# Altium schematic symbol library jlcpcb_2025_04_inductors_extended_1206.schlib: 159 symbols (part 3 of 3)
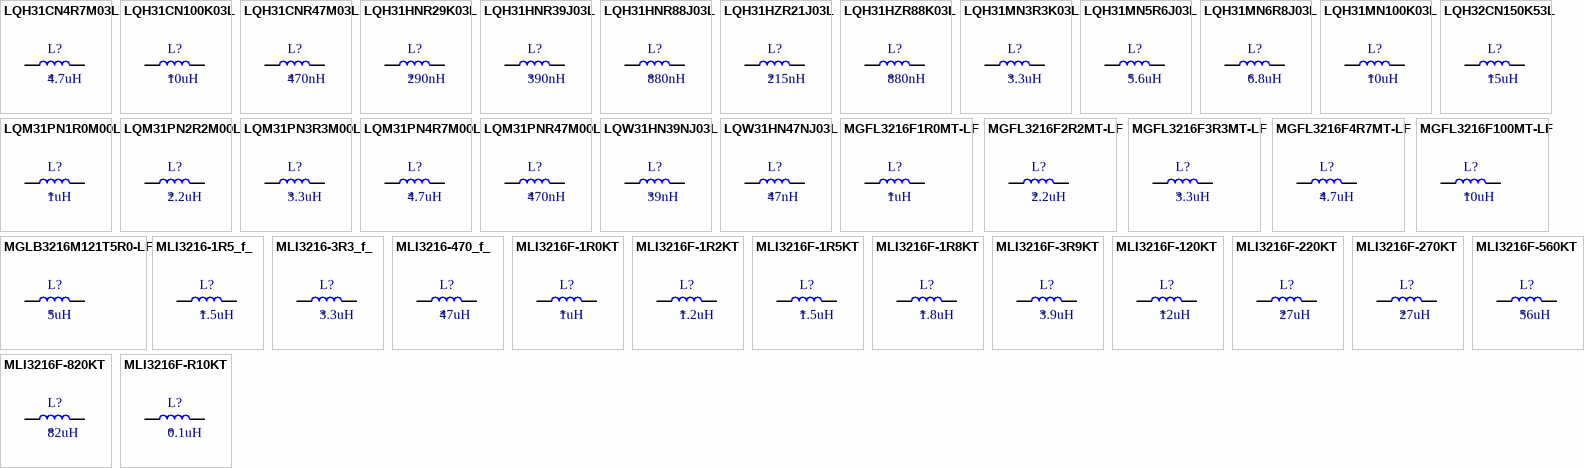
[diagram p5: symbols LQH31CN4R7M03L to MLI3216F-R10KT]

## MLI3216-1R5_f_
designator L?  Inductance: 1.5uH
Inductor, 1.5uH, ±10%, 500mΩ, 50mA, SMD 1206; Manufacturer: Meled; Manufacturer Part Number: MLI3216-1R5(f); Package Size: 1206; JLCPCB Basic Part: No; JLCPCB Part Number: C15581; Supplier 1: LCSC; Category: Inductors; Supplier Part Number 1: C15581; Tolerance: ±10%; Rated Current: 50mA; DC Resistance: 500mΩ; RoHS: Yes; ComponentLink1Description: Datasheet; ComponentLink1URL: https://wmsc.lcsc.com/wmsc/upload/file/pdf/v2/lcsc/1809191731_MetalLions-MLI3216-1R5-f_C15581.pdf; ComponentLink2Description: JLCPCB Part URL; ComponentLink2URL: https://jlcpcb.com/partdetail/C15581; ComponentLink3Description: LCSC Part URL; ComponentLink3URL: https://lcsc.com/product-detail/Inductors-SMD_Meled-Meled-MLI3216-1R5f_C15581.html
footprint IND-1206 (1206 (3216M) Inductor)
pins: 1, 2

## MLI3216-3R3_f_
designator L?  Inductance: 3.3uH
Inductor, 3.3uH, ±10%, 700mΩ, 50mA, SMD 1206; Manufacturer: Meled; Manufacturer Part Number: MLI3216-3R3(f); Package Size: 1206; JLCPCB Basic Part: No; JLCPCB Part Number: C52707; Supplier 1: LCSC; Category: Inductors; Supplier Part Number 1: C52707; Tolerance: ±10%; Rated Current: 50mA; DC Resistance: 700mΩ; RoHS: Yes; ComponentLink1Description: Datasheet; ComponentLink1URL: https://wmsc.lcsc.com/wmsc/upload/file/pdf/v2/lcsc/1809231810_MetalLions-MLI3216-3R3-f_C52707.pdf; ComponentLink2Description: JLCPCB Part URL; ComponentLink2URL: https://jlcpcb.com/partdetail/C52707; ComponentLink3Description: LCSC Part URL; ComponentLink3URL: https://lcsc.com/product-detail/Inductors-SMD_Meled-Meled-MLI3216-3R3f_C52707.html
footprint IND-1206 (1206 (3216M) Inductor)
pins: 1, 2

## MLI3216-470_f_
designator L?  Inductance: 47uH
Inductor, 47uH, ±10%, 3.5Ω, 5mA, SMD 1206; Manufacturer: Meled; Manufacturer Part Number: MLI3216-470(f); Package Size: 1206; JLCPCB Basic Part: No; JLCPCB Part Number: C26910; Supplier 1: LCSC; Category: Inductors; Supplier Part Number 1: C26910; Tolerance: ±10%; Rated Current: 5mA; DC Resistance: 3.5Ω; RoHS: Yes; ComponentLink1Description: Datasheet; ComponentLink1URL: https://wmsc.lcsc.com/wmsc/upload/file/pdf/v2/lcsc/1810301816_MetalLions-MLI3216-470-f_C26910.pdf; ComponentLink2Description: JLCPCB Part URL; ComponentLink2URL: https://jlcpcb.com/partdetail/C26910; ComponentLink3Description: LCSC Part URL; ComponentLink3URL: https://lcsc.com/product-detail/Inductors-SMD_Meled-Meled-MLI3216-470f_C26910.html
footprint IND-1206 (1206 (3216M) Inductor)
pins: 1, 2

## MLI3216F-1R0KT
designator L?  Inductance: 1uH
Inductor, 1uH, ±10%, 0.4Ω, 100mA, SMD 1206; Manufacturer: Meled; Manufacturer Part Number: MLI3216F-1R0KT; Self-Resonant Frequency: 75MHz; Q Factor: 45@10MHz; Package Size: 1206; JLCPCB Basic Part: No; JLCPCB Part Number: C2885918; Supplier 1: LCSC; Category: Inductors; Supplier Part Number 1: C2885918; Tolerance: ±10%; Rated Current: 100mA; DC Resistance: 0.4Ω; RoHS: Yes; ComponentLink1Description: Datasheet; ComponentLink1URL: https://wmsc.lcsc.com/wmsc/upload/file/pdf/v2/lcsc/2306021139_MetalLions-MLI3216F-1R0KT_C2885918.pdf; ComponentLink2Description: JLCPCB Part URL; ComponentLink2URL: https://jlcpcb.com/partdetail/C2885918; ComponentLink3Description: LCSC Part URL; ComponentLink3URL: https://lcsc.com/product-detail/Inductors-SMD_MetalLions-MetalLions-MLI3216F-1R0KT_C2885918.html
footprint IND-1206 (1206 (3216M) Inductor)
pins: 1, 2

## MLI3216F-1R2KT
designator L?  Inductance: 1.2uH
Inductor, 1.2uH, ±10%, 0.5Ω, 100mA, SMD 1206; Manufacturer: Meled; Manufacturer Part Number: MLI3216F-1R2KT; Self-Resonant Frequency: 65MHz; Q Factor: 45@10MHz; Package Size: 1206; JLCPCB Basic Part: No; JLCPCB Part Number: C2885919; Supplier 1: LCSC; Category: Inductors; Supplier Part Number 1: C2885919; Tolerance: ±10%; Rated Current: 100mA; DC Resistance: 0.5Ω; RoHS: Yes; ComponentLink1Description: Datasheet; ComponentLink1URL: https://wmsc.lcsc.com/wmsc/upload/file/pdf/v2/lcsc/2306021139_MetalLions-MLI3216F-1R2KT_C2885919.pdf; ComponentLink2Description: JLCPCB Part URL; ComponentLink2URL: https://jlcpcb.com/partdetail/C2885919; ComponentLink3Description: LCSC Part URL; ComponentLink3URL: https://lcsc.com/product-detail/Inductors-SMD_MetalLions-MetalLions-MLI3216F-1R2KT_C2885919.html
footprint IND-1206 (1206 (3216M) Inductor)
pins: 1, 2

## MLI3216F-1R5KT
designator L?  Inductance: 1.5uH
Inductor, 1.5uH, ±10%, 0.5Ω, 50mA, SMD 1206; Manufacturer: Meled; Manufacturer Part Number: MLI3216F-1R5KT; Self-Resonant Frequency: 60MHz; Q Factor: 45@10MHz; Package Size: 1206; JLCPCB Basic Part: No; JLCPCB Part Number: C2885920; Supplier 1: LCSC; Category: Inductors; Supplier Part Number 1: C2885920; Tolerance: ±10%; Rated Current: 50mA; DC Resistance: 0.5Ω; RoHS: Yes; ComponentLink1Description: Datasheet; ComponentLink1URL: https://wmsc.lcsc.com/wmsc/upload/file/pdf/v2/lcsc/2306021139_MetalLions-MLI3216F-1R5KT_C2885920.pdf; ComponentLink2Description: JLCPCB Part URL; ComponentLink2URL: https://jlcpcb.com/partdetail/C2885920; ComponentLink3Description: LCSC Part URL; ComponentLink3URL: https://lcsc.com/product-detail/Inductors-SMD_MetalLions-MetalLions-MLI3216F-1R5KT_C2885920.html
footprint IND-1206 (1206 (3216M) Inductor)
pins: 1, 2

## MLI3216F-1R8KT
designator L?  Inductance: 1.8uH
Inductor, 1.8uH, ±10%, 0.5Ω, 50mA, SMD 1206; Manufacturer: Meled; Manufacturer Part Number: MLI3216F-1R8KT; Self-Resonant Frequency: 55MHz; Q Factor: 45@10MHz; Package Size: 1206; JLCPCB Basic Part: No; JLCPCB Part Number: C2885921; Supplier 1: LCSC; Category: Inductors; Supplier Part Number 1: C2885921; Tolerance: ±10%; Rated Current: 50mA; DC Resistance: 0.5Ω; RoHS: Yes; ComponentLink1Description: Datasheet; ComponentLink1URL: https://wmsc.lcsc.com/wmsc/upload/file/pdf/v2/lcsc/2306021139_MetalLions-MLI3216F-1R8KT_C2885921.pdf; ComponentLink2Description: JLCPCB Part URL; ComponentLink2URL: https://jlcpcb.com/partdetail/C2885921; ComponentLink3Description: LCSC Part URL; ComponentLink3URL: https://lcsc.com/product-detail/Inductors-SMD_MetalLions-MetalLions-MLI3216F-1R8KT_C2885921.html
footprint IND-1206 (1206 (3216M) Inductor)
pins: 1, 2

## MLI3216F-3R9KT
designator L?  Inductance: 3.9uH
Inductor, 3.9uH, ±10%, 0.8Ω, 50mA, SMD 1206; Manufacturer: Meled; Manufacturer Part Number: MLI3216F-3R9KT; Self-Resonant Frequency: 38MHz; Q Factor: 45@10MHz; Package Size: 1206; JLCPCB Basic Part: No; JLCPCB Part Number: C2885925; Supplier 1: LCSC; Category: Inductors; Supplier Part Number 1: C2885925; Tolerance: ±10%; Rated Current: 50mA; DC Resistance: 0.8Ω; RoHS: Yes; ComponentLink1Description: Datasheet; ComponentLink1URL: https://wmsc.lcsc.com/wmsc/upload/file/pdf/v2/lcsc/2306021139_MetalLions-MLI3216F-3R9KT_C2885925.pdf; ComponentLink2Description: JLCPCB Part URL; ComponentLink2URL: https://jlcpcb.com/partdetail/C2885925; ComponentLink3Description: LCSC Part URL; ComponentLink3URL: https://lcsc.com/product-detail/Inductors-SMD_MetalLions-MetalLions-MLI3216F-3R9KT_C2885925.html
footprint IND-1206 (1206 (3216M) Inductor)
pins: 1, 2

## MLI3216F-120KT
designator L?  Inductance: 12uH
Inductor, 12uH, ±10%, 1.05Ω, 15mA, SMD 1206; Manufacturer: Meled; Manufacturer Part Number: MLI3216F-120KT; Self-Resonant Frequency: 22MHz; Q Factor: 50@2MHz; Package Size: 1206; JLCPCB Basic Part: No; JLCPCB Part Number: C2885931; Supplier 1: LCSC; Category: Inductors; Supplier Part Number 1: C2885931; Tolerance: ±10%; Rated Current: 15mA; DC Resistance: 1.05Ω; RoHS: Yes; ComponentLink1Description: Datasheet; ComponentLink1URL: https://wmsc.lcsc.com/wmsc/upload/file/pdf/v2/lcsc/2306021139_MetalLions-MLI3216F-120KT_C2885931.pdf; ComponentLink2Description: JLCPCB Part URL; ComponentLink2URL: https://jlcpcb.com/partdetail/C2885931; ComponentLink3Description: LCSC Part URL; ComponentLink3URL: https://lcsc.com/product-detail/Inductors-SMD_MetalLions-MetalLions-MLI3216F-120KT_C2885931.html
footprint IND-1206 (1206 (3216M) Inductor)
pins: 1, 2

## MLI3216F-220KT
designator L?  Inductance: 27uH
Inductor, 27uH, ±10%, 0.9Ω, 5mA, SMD 1206; Manufacturer: Meled; Manufacturer Part Number: MLI3216F-220KT; Self-Resonant Frequency: 16MHz; Q Factor: 35@1MHz; Package Size: 1206; JLCPCB Basic Part: No; JLCPCB Part Number: C2885934; Supplier 1: LCSC; Category: Inductors; Supplier Part Number 1: C2885934; Tolerance: ±10%; Rated Current: 5mA; DC Resistance: 0.9Ω; RoHS: Yes; ComponentLink1Description: Datasheet; ComponentLink1URL: https://wmsc.lcsc.com/wmsc/upload/file/pdf/v2/lcsc/2306021139_MetalLions-MLI3216F-220KT_C2885934.pdf; ComponentLink2Description: JLCPCB Part URL; ComponentLink2URL: https://jlcpcb.com/partdetail/C2885934; ComponentLink3Description: LCSC Part URL; ComponentLink3URL: https://lcsc.com/product-detail/Inductors-SMD_MetalLions-MetalLions-MLI3216F-220KT_C2885934.html
footprint IND-1206 (1206 (3216M) Inductor)
pins: 1, 2

## MLI3216F-270KT
designator L?  Inductance: 27uH
Inductor, 27uH, ±10%, 0.9Ω, 5mA, SMD 1206; Manufacturer: Meled; Manufacturer Part Number: MLI3216F-270KT; Self-Resonant Frequency: 14MHz; Q Factor: 35@1MHz; Package Size: 1206; JLCPCB Basic Part: No; JLCPCB Part Number: C2885935; Supplier 1: LCSC; Category: Inductors; Supplier Part Number 1: C2885935; Tolerance: ±10%; Rated Current: 5mA; DC Resistance: 0.9Ω; RoHS: Yes; ComponentLink1Description: Datasheet; ComponentLink1URL: https://wmsc.lcsc.com/wmsc/upload/file/pdf/v2/lcsc/2306021139_MetalLions-MLI3216F-270KT_C2885935.pdf; ComponentLink2Description: JLCPCB Part URL; ComponentLink2URL: https://jlcpcb.com/partdetail/C2885935; ComponentLink3Description: LCSC Part URL; ComponentLink3URL: https://lcsc.com/product-detail/Inductors-SMD_MetalLions-MetalLions-MLI3216F-270KT_C2885935.html
footprint IND-1206 (1206 (3216M) Inductor)
pins: 1, 2

## MLI3216F-560KT
designator L?  Inductance: 56uH
Inductor, 56uH, ±10%, 3.8Ω, 4mA, SMD 1206; Manufacturer: Meled; Manufacturer Part Number: MLI3216F-560KT; Self-Resonant Frequency: 9.5MHz; Q Factor: 10@2MHz; Package Size: 1206; JLCPCB Basic Part: No; JLCPCB Part Number: C2885939; Supplier 1: LCSC; Category: Inductors; Supplier Part Number 1: C2885939; Tolerance: ±10%; Rated Current: 4mA; DC Resistance: 3.8Ω; RoHS: Yes; ComponentLink1Description: Datasheet; ComponentLink1URL: https://wmsc.lcsc.com/wmsc/upload/file/pdf/v2/lcsc/2306021139_MetalLions-MLI3216F-560KT_C2885939.pdf; ComponentLink2Description: JLCPCB Part URL; ComponentLink2URL: https://jlcpcb.com/partdetail/C2885939; ComponentLink3Description: LCSC Part URL; ComponentLink3URL: https://lcsc.com/product-detail/Inductors-SMD_MetalLions-MetalLions-MLI3216F-560KT_C2885939.html
footprint IND-1206 (1206 (3216M) Inductor)
pins: 1, 2

## MLI3216F-820KT
designator L?  Inductance: 82uH
Inductor, 82uH, ±10%, 3.4Ω, 4mA, SMD 1206; Manufacturer: Meled; Manufacturer Part Number: MLI3216F-820KT; Self-Resonant Frequency: 9MHz; Q Factor: 10@1MHz; Package Size: 1206; JLCPCB Basic Part: No; JLCPCB Part Number: C2885941; Supplier 1: LCSC; Category: Inductors; Supplier Part Number 1: C2885941; Tolerance: ±10%; Rated Current: 4mA; DC Resistance: 3.4Ω; RoHS: Yes; ComponentLink1Description: Datasheet; ComponentLink1URL: https://wmsc.lcsc.com/wmsc/upload/file/pdf/v2/lcsc/2306021139_MetalLions-MLI3216F-820KT_C2885941.pdf; ComponentLink2Description: JLCPCB Part URL; ComponentLink2URL: https://jlcpcb.com/partdetail/C2885941; ComponentLink3Description: LCSC Part URL; ComponentLink3URL: https://lcsc.com/product-detail/Inductors-SMD_MetalLions-MetalLions-MLI3216F-820KT_C2885941.html
footprint IND-1206 (1206 (3216M) Inductor)
pins: 1, 2

## MLI3216F-R10KT
designator L?  Inductance: 0.1uH
Inductor, 0.1uH, ±10%, 0.25Ω, 250mA, SMD 1206; Manufacturer: Meled; Manufacturer Part Number: MLI3216F-R10KT; Self-Resonant Frequency: 235MHz; Q Factor: 20@25MHz; Package Size: 1206; JLCPCB Basic Part: No; JLCPCB Part Number: C2885907; Supplier 1: LCSC; Category: Inductors; Supplier Part Number 1: C2885907; Tolerance: ±10%; Rated Current: 250mA; DC Resistance: 0.25Ω; RoHS: Yes; ComponentLink1Description: Datasheet; ComponentLink1URL: https://wmsc.lcsc.com/wmsc/upload/file/pdf/v2/lcsc/2306021138_MetalLions-MLI3216F-R10KT_C2885907.pdf; ComponentLink2Description: JLCPCB Part URL; ComponentLink2URL: https://jlcpcb.com/partdetail/C2885907; ComponentLink3Description: LCSC Part URL; ComponentLink3URL: https://lcsc.com/product-detail/Inductors-SMD_MetalLions-MetalLions-MLI3216F-R10KT_C2885907.html
footprint IND-1206 (1206 (3216M) Inductor)
pins: 1, 2

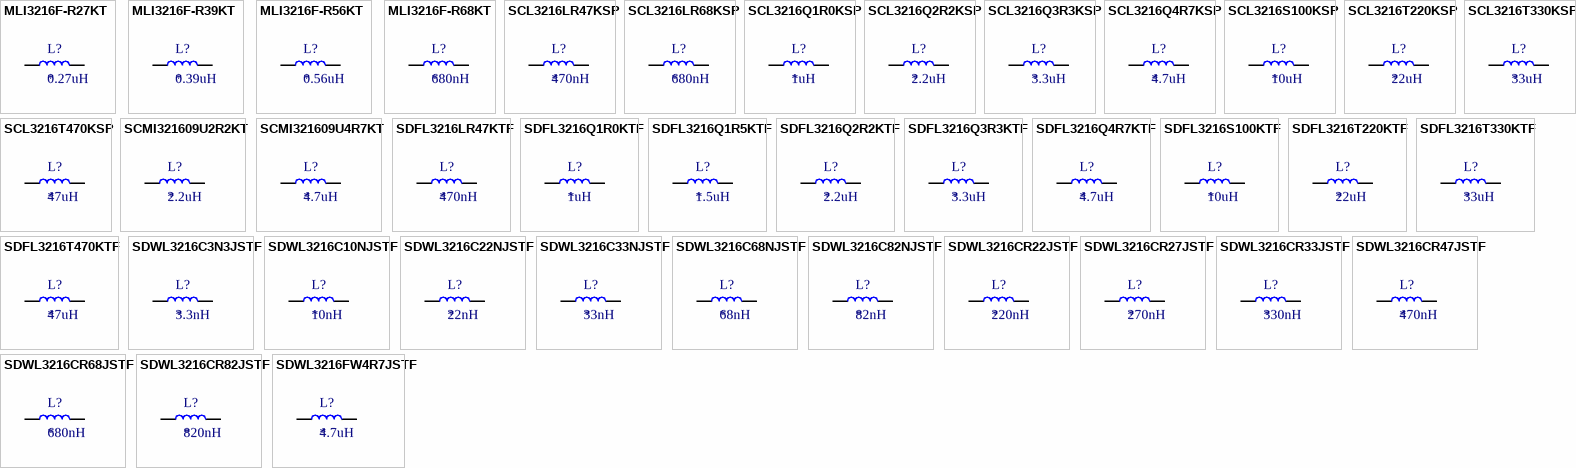
[diagram p3: symbols MLI3216F-R27KT to SDWL3216FW4R7JSTF]

## MLI3216F-R27KT
designator L?  Inductance: 0.27uH
Inductor, 0.27uH, ±10%, 0.5Ω, 250mA, SMD 1206; Manufacturer: Meled; Manufacturer Part Number: MLI3216F-R27KT; Self-Resonant Frequency: 150MHz; Q Factor: 20@25MHz; Package Size: 1206; JLCPCB Basic Part: No; JLCPCB Part Number: C2885911; Supplier 1: LCSC; Category: Inductors; Supplier Part Number 1: C2885911; Tolerance: ±10%; Rated Current: 250mA; DC Resistance: 0.5Ω; RoHS: Yes; ComponentLink1Description: Datasheet; ComponentLink1URL: https://wmsc.lcsc.com/wmsc/upload/file/pdf/v2/lcsc/2306021138_MetalLions-MLI3216F-R27KT_C2885911.pdf; ComponentLink2Description: JLCPCB Part URL; ComponentLink2URL: https://jlcpcb.com/partdetail/C2885911; ComponentLink3Description: LCSC Part URL; ComponentLink3URL: https://lcsc.com/product-detail/Inductors-SMD_MetalLions-MetalLions-MLI3216F-R27KT_C2885911.html
footprint IND-1206 (1206 (3216M) Inductor)
pins: 1, 2

## MLI3216F-R39KT
designator L?  Inductance: 0.39uH
Inductor, 0.39uH, ±10%, 0.5Ω, 200mA, SMD 1206; Manufacturer: Meled; Manufacturer Part Number: MLI3216F-R39KT; Self-Resonant Frequency: 135MHz; Q Factor: 25@25MHz; Package Size: 1206; JLCPCB Basic Part: No; JLCPCB Part Number: C2885913; Supplier 1: LCSC; Category: Inductors; Supplier Part Number 1: C2885913; Tolerance: ±10%; Rated Current: 200mA; DC Resistance: 0.5Ω; RoHS: Yes; ComponentLink1Description: Datasheet; ComponentLink1URL: https://wmsc.lcsc.com/wmsc/upload/file/pdf/v2/lcsc/2306021138_MetalLions-MLI3216F-R39KT_C2885913.pdf; ComponentLink2Description: JLCPCB Part URL; ComponentLink2URL: https://jlcpcb.com/partdetail/C2885913; ComponentLink3Description: LCSC Part URL; ComponentLink3URL: https://lcsc.com/product-detail/Inductors-SMD_MetalLions-MetalLions-MLI3216F-R39KT_C2885913.html
footprint IND-1206 (1206 (3216M) Inductor)
pins: 1, 2

## MLI3216F-R56KT
designator L?  Inductance: 0.56uH
Inductor, 0.56uH, ±10%, 0.7Ω, 150mA, SMD 1206; Manufacturer: Meled; Manufacturer Part Number: MLI3216F-R56KT; Self-Resonant Frequency: 115MHz; Q Factor: 25@25MHz; Package Size: 1206; JLCPCB Basic Part: No; JLCPCB Part Number: C2885915; Supplier 1: LCSC; Category: Inductors; Supplier Part Number 1: C2885915; Tolerance: ±10%; Rated Current: 150mA; DC Resistance: 0.7Ω; RoHS: Yes; ComponentLink1Description: Datasheet; ComponentLink1URL: https://wmsc.lcsc.com/wmsc/upload/file/pdf/v2/lcsc/2306021138_MetalLions-MLI3216F-R56KT_C2885915.pdf; ComponentLink2Description: JLCPCB Part URL; ComponentLink2URL: https://jlcpcb.com/partdetail/C2885915; ComponentLink3Description: LCSC Part URL; ComponentLink3URL: https://lcsc.com/product-detail/Inductors-SMD_MetalLions-MetalLions-MLI3216F-R56KT_C2885915.html
footprint IND-1206 (1206 (3216M) Inductor)
pins: 1, 2

## MLI3216F-R68KT
designator L?  Inductance: 680nH
Inductor, 680nH, ±10%, 800mΩ, 150mA, SMD 1206; Manufacturer: Meled; Manufacturer Part Number: MLI3216F-R68KT; Self-Resonant Frequency: 105MHz; Q Factor: 25@25MHz; Package Size: 1206; JLCPCB Basic Part: No; JLCPCB Part Number: C2885916; Supplier 1: LCSC; Category: Inductors; Supplier Part Number 1: C2885916; Tolerance: ±10%; Rated Current: 150mA; DC Resistance: 800mΩ; RoHS: Yes; ComponentLink1Description: Datasheet; ComponentLink1URL: https://wmsc.lcsc.com/wmsc/upload/file/pdf/v2/lcsc/2306021139_MetalLions-MLI3216F-R68KT_C2885916.pdf; ComponentLink2Description: JLCPCB Part URL; ComponentLink2URL: https://jlcpcb.com/partdetail/C2885916; ComponentLink3Description: LCSC Part URL; ComponentLink3URL: https://lcsc.com/product-detail/Inductors-SMD_MetalLions-MetalLions-MLI3216F-R68KT_C2885916.html
footprint IND-1206 (1206 (3216M) Inductor)
pins: 1, 2

## SCL3216LR47KSP
designator L?  Inductance: 470nH
Inductor, 470nH, ±10%, 600mΩ, 200mA, SMD 1206; Manufacturer: Sunltech Tech; Manufacturer Part Number: SCL3216LR47KSP; Package Size: 1206; JLCPCB Basic Part: No; JLCPCB Part Number: C412012; Supplier 1: LCSC; Category: Inductors; Supplier Part Number 1: C412012; Tolerance: ±10%; Rated Current: 200mA; DC Resistance: 600mΩ; RoHS: Yes; ComponentLink1Description: Datasheet; ComponentLink1URL: https://wmsc.lcsc.com/wmsc/upload/file/pdf/v2/lcsc/2304140030_Sunltech-Tech-SCL3216LR47KSP_C412012.pdf; ComponentLink2Description: JLCPCB Part URL; ComponentLink2URL: https://jlcpcb.com/partdetail/C412012; ComponentLink3Description: LCSC Part URL; ComponentLink3URL: https://lcsc.com/product-detail/Inductors-SMD_Sunltech-Tech-Sunltech-Tech-SCL3216LR47KSP_C412012.html
footprint IND-1206 (1206 (3216M) Inductor)
pins: 1, 2

## SCL3216LR68KSP
designator L?  Inductance: 680nH
Inductor, 680nH, ±10%, 800mΩ, 150mA, SMD 1206; Manufacturer: Sunltech Tech; Manufacturer Part Number: SCL3216LR68KSP; Package Size: 1206; JLCPCB Basic Part: No; JLCPCB Part Number: C412013; Supplier 1: LCSC; Category: Inductors; Supplier Part Number 1: C412013; Tolerance: ±10%; Rated Current: 150mA; DC Resistance: 800mΩ; RoHS: Yes; ComponentLink1Description: Datasheet; ComponentLink1URL: https://wmsc.lcsc.com/wmsc/upload/file/pdf/v2/lcsc/2304140030_Sunltech-Tech-SCL3216LR68KSP_C412013.pdf; ComponentLink2Description: JLCPCB Part URL; ComponentLink2URL: https://jlcpcb.com/partdetail/C412013; ComponentLink3Description: LCSC Part URL; ComponentLink3URL: https://lcsc.com/product-detail/Inductors-SMD_Sunltech-Tech-Sunltech-Tech-SCL3216LR68KSP_C412013.html
footprint IND-1206 (1206 (3216M) Inductor)
pins: 1, 2

## SCL3216Q1R0KSP
designator L?  Inductance: 1uH
Inductor, 1uH, ±10%, 400mΩ, 100mA, SMD 1206; Manufacturer: Sunltech Tech; Manufacturer Part Number: SCL3216Q1R0KSP; Package Size: 1206; JLCPCB Basic Part: No; JLCPCB Part Number: C412014; Supplier 1: LCSC; Category: Inductors; Supplier Part Number 1: C412014; Tolerance: ±10%; Rated Current: 100mA; DC Resistance: 400mΩ; RoHS: Yes; ComponentLink1Description: Datasheet; ComponentLink1URL: https://wmsc.lcsc.com/wmsc/upload/file/pdf/v2/lcsc/2304140030_Sunltech-Tech-SCL3216Q1R0KSP_C412014.pdf; ComponentLink2Description: JLCPCB Part URL; ComponentLink2URL: https://jlcpcb.com/partdetail/C412014; ComponentLink3Description: LCSC Part URL; ComponentLink3URL: https://lcsc.com/product-detail/Inductors-SMD_Sunltech-Tech-Sunltech-Tech-SCL3216Q1R0KSP_C412014.html
footprint IND-1206 (1206 (3216M) Inductor)
pins: 1, 2

## SCL3216Q2R2KSP
designator L?  Inductance: 2.2uH
Inductor, 2.2uH, ±10%, 600mΩ, 50mA, SMD 1206; Manufacturer: Sunltech Tech; Manufacturer Part Number: SCL3216Q2R2KSP; Package Size: 1206; JLCPCB Basic Part: No; JLCPCB Part Number: C412015; Supplier 1: LCSC; Category: Inductors; Supplier Part Number 1: C412015; Tolerance: ±10%; Rated Current: 50mA; DC Resistance: 600mΩ; RoHS: Yes; ComponentLink1Description: Datasheet; ComponentLink1URL: https://wmsc.lcsc.com/wmsc/upload/file/pdf/v2/lcsc/2304140030_Sunltech-Tech-SCL3216Q2R2KSP_C412015.pdf; ComponentLink2Description: JLCPCB Part URL; ComponentLink2URL: https://jlcpcb.com/partdetail/C412015; ComponentLink3Description: LCSC Part URL; ComponentLink3URL: https://lcsc.com/product-detail/Inductors-SMD_Sunltech-Tech-Sunltech-Tech-SCL3216Q2R2KSP_C412015.html
footprint IND-1206 (1206 (3216M) Inductor)
pins: 1, 2

## SCL3216Q3R3KSP
designator L?  Inductance: 3.3uH
Inductor, 3.3uH, ±10%, 700mΩ, 50mA, SMD 1206; Manufacturer: Sunltech Tech; Manufacturer Part Number: SCL3216Q3R3KSP; Package Size: 1206; JLCPCB Basic Part: No; JLCPCB Part Number: C412016; Supplier 1: LCSC; Category: Inductors; Supplier Part Number 1: C412016; Tolerance: ±10%; Rated Current: 50mA; DC Resistance: 700mΩ; RoHS: Yes; ComponentLink1Description: Datasheet; ComponentLink1URL: https://wmsc.lcsc.com/wmsc/upload/file/pdf/v2/lcsc/2304140030_Sunltech-Tech-SCL3216Q3R3KSP_C412016.pdf; ComponentLink2Description: JLCPCB Part URL; ComponentLink2URL: https://jlcpcb.com/partdetail/C412016; ComponentLink3Description: LCSC Part URL; ComponentLink3URL: https://lcsc.com/product-detail/Inductors-SMD_Sunltech-Tech-Sunltech-Tech-SCL3216Q3R3KSP_C412016.html
footprint IND-1206 (1206 (3216M) Inductor)
pins: 1, 2

## SCL3216Q4R7KSP
designator L?  Inductance: 4.7uH
Inductor, 4.7uH, ±10%, 900mΩ, 50mA, SMD 1206; Manufacturer: Sunltech Tech; Manufacturer Part Number: SCL3216Q4R7KSP; Package Size: 1206; JLCPCB Basic Part: No; JLCPCB Part Number: C412017; Supplier 1: LCSC; Category: Inductors; Supplier Part Number 1: C412017; Tolerance: ±10%; Rated Current: 50mA; DC Resistance: 900mΩ; RoHS: Yes; ComponentLink1Description: Datasheet; ComponentLink1URL: https://wmsc.lcsc.com/wmsc/upload/file/pdf/v2/lcsc/2304140030_Sunltech-Tech-SCL3216Q4R7KSP_C412017.pdf; ComponentLink2Description: JLCPCB Part URL; ComponentLink2URL: https://jlcpcb.com/partdetail/C412017; ComponentLink3Description: LCSC Part URL; ComponentLink3URL: https://lcsc.com/product-detail/Inductors-SMD_Sunltech-Tech-Sunltech-Tech-SCL3216Q4R7KSP_C412017.html
footprint IND-1206 (1206 (3216M) Inductor)
pins: 1, 2

## SCL3216S100KSP
designator L?  Inductance: 10uH
Inductor, 10uH, ±10%, 1Ω, 25mA, SMD 1206; Manufacturer: Sunltech Tech; Manufacturer Part Number: SCL3216S100KSP; Package Size: 1206; JLCPCB Basic Part: No; JLCPCB Part Number: C412018; Supplier 1: LCSC; Category: Inductors; Supplier Part Number 1: C412018; Tolerance: ±10%; Rated Current: 25mA; DC Resistance: 1Ω; RoHS: Yes; ComponentLink1Description: Datasheet; ComponentLink1URL: https://wmsc.lcsc.com/wmsc/upload/file/pdf/v2/lcsc/2304140030_Sunltech-Tech-SCL3216S100KSP_C412018.pdf; ComponentLink2Description: JLCPCB Part URL; ComponentLink2URL: https://jlcpcb.com/partdetail/C412018; ComponentLink3Description: LCSC Part URL; ComponentLink3URL: https://lcsc.com/product-detail/Inductors-SMD_Sunltech-Tech-Sunltech-Tech-SCL3216S100KSP_C412018.html
footprint IND-1206 (1206 (3216M) Inductor)
pins: 1, 2

## SCL3216T220KSP
designator L?  Inductance: 22uH
Inductor, 22uH, ±10%, 900mΩ, 5mA, SMD 1206; Manufacturer: Sunltech Tech; Manufacturer Part Number: SCL3216T220KSP; Package Size: 1206; JLCPCB Basic Part: No; JLCPCB Part Number: C412019; Supplier 1: LCSC; Category: Inductors; Supplier Part Number 1: C412019; Tolerance: ±10%; Rated Current: 5mA; DC Resistance: 900mΩ; RoHS: Yes; ComponentLink1Description: Datasheet; ComponentLink1URL: https://wmsc.lcsc.com/wmsc/upload/file/pdf/v2/lcsc/2304140030_Sunltech-Tech-SCL3216T220KSP_C412019.pdf; ComponentLink2Description: JLCPCB Part URL; ComponentLink2URL: https://jlcpcb.com/partdetail/C412019; ComponentLink3Description: LCSC Part URL; ComponentLink3URL: https://lcsc.com/product-detail/Inductors-SMD_Sunltech-Tech-Sunltech-Tech-SCL3216T220KSP_C412019.html
footprint IND-1206 (1206 (3216M) Inductor)
pins: 1, 2

## SCL3216T330KSP
designator L?  Inductance: 33uH
Inductor, 33uH, ±10%, 1.05Ω, 5mA, SMD 1206; Manufacturer: Sunltech Tech; Manufacturer Part Number: SCL3216T330KSP; Package Size: 1206; JLCPCB Basic Part: No; JLCPCB Part Number: C412020; Supplier 1: LCSC; Category: Inductors; Supplier Part Number 1: C412020; Tolerance: ±10%; Rated Current: 5mA; DC Resistance: 1.05Ω; RoHS: Yes; ComponentLink1Description: Datasheet; ComponentLink1URL: https://wmsc.lcsc.com/wmsc/upload/file/pdf/v2/lcsc/2304140030_Sunltech-Tech-SCL3216T330KSP_C412020.pdf; ComponentLink2Description: JLCPCB Part URL; ComponentLink2URL: https://jlcpcb.com/partdetail/C412020; ComponentLink3Description: LCSC Part URL; ComponentLink3URL: https://lcsc.com/product-detail/Inductors-SMD_Sunltech-Tech-Sunltech-Tech-SCL3216T330KSP_C412020.html
footprint IND-1206 (1206 (3216M) Inductor)
pins: 1, 2

## SCL3216T470KSP
designator L?  Inductance: 47uH
Inductor, 47uH, ±10%, 3.4Ω, 5mA, SMD 1206; Manufacturer: Sunltech Tech; Manufacturer Part Number: SCL3216T470KSP; Package Size: 1206; JLCPCB Basic Part: No; JLCPCB Part Number: C412021; Supplier 1: LCSC; Category: Inductors; Supplier Part Number 1: C412021; Tolerance: ±10%; Rated Current: 5mA; DC Resistance: 3.4Ω; RoHS: Yes; ComponentLink1Description: Datasheet; ComponentLink1URL: https://wmsc.lcsc.com/wmsc/upload/file/pdf/v2/lcsc/2007311604_Sunltech-Tech-SCL3216T470KSP_C412021.pdf; ComponentLink2Description: JLCPCB Part URL; ComponentLink2URL: https://jlcpcb.com/partdetail/C412021; ComponentLink3Description: LCSC Part URL; ComponentLink3URL: https://lcsc.com/product-detail/Inductors-SMD_Sunltech-Tech-Sunltech-Tech-SCL3216T470KSP_C412021.html
footprint IND-1206 (1206 (3216M) Inductor)
pins: 1, 2

## SCMI321609U2R2KT
designator L?  Inductance: 2.2uH
Inductor, 2.2uH, ±10%, 500mΩ, 50mA, SMD 1206; Manufacturer: Yanchuang; Manufacturer Part Number: SCMI321609U2R2KT; Package Size: 1206; JLCPCB Basic Part: No; JLCPCB Part Number: C479919; Supplier 1: LCSC; Category: Inductors; Supplier Part Number 1: C479919; Tolerance: ±10%; Rated Current: 50mA; DC Resistance: 500mΩ; RoHS: Yes; ComponentLink1Description: Datasheet; ComponentLink1URL: https://wmsc.lcsc.com/wmsc/upload/file/pdf/v2/lcsc/2007222003_Yanchuang-SCMI321609U2R2KT_C479919.pdf; ComponentLink2Description: JLCPCB Part URL; ComponentLink2URL: https://jlcpcb.com/partdetail/C479919; ComponentLink3Description: LCSC Part URL; ComponentLink3URL: https://lcsc.com/product-detail/Inductors-SMD_Yanchuang-Yanchuang-SCMI321609U2R2KT_C479919.html
footprint IND-1206 (1206 (3216M) Inductor)
pins: 1, 2

## SCMI321609U4R7KT
designator L?  Inductance: 4.7uH
Inductor, 4.7uH, ±10%, 650mΩ, 25mA, SMD 1206; Manufacturer: Yanchuang; Manufacturer Part Number: SCMI321609U4R7KT; Package Size: 1206; JLCPCB Basic Part: No; JLCPCB Part Number: C479923; Supplier 1: LCSC; Category: Inductors; Supplier Part Number 1: C479923; Tolerance: ±10%; Rated Current: 25mA; DC Resistance: 650mΩ; RoHS: Yes; ComponentLink1Description: Datasheet; ComponentLink1URL: https://wmsc.lcsc.com/wmsc/upload/file/pdf/v2/lcsc/2007222032_Yanchuang-SCMI321609U4R7KT_C479923.pdf; ComponentLink2Description: JLCPCB Part URL; ComponentLink2URL: https://jlcpcb.com/partdetail/C479923; ComponentLink3Description: LCSC Part URL; ComponentLink3URL: https://lcsc.com/product-detail/Inductors-SMD_Yanchuang-Yanchuang-SCMI321609U4R7KT_C479923.html
footprint IND-1206 (1206 (3216M) Inductor)
pins: 1, 2

## SDFL3216LR47KTF
designator L?  Inductance: 470nH
Inductor, 470nH, ±10%, 600mΩ, 200mA, SMD 1206; Manufacturer: Sunlord; Manufacturer Part Number: SDFL3216LR47KTF; Package Size: 1206; JLCPCB Basic Part: No; JLCPCB Part Number: C370278; Supplier 1: LCSC; Category: Inductors; Supplier Part Number 1: C370278; Tolerance: ±10%; Rated Current: 200mA; DC Resistance: 600mΩ; RoHS: Yes; ComponentLink1Description: Datasheet; ComponentLink1URL: https://wmsc.lcsc.com/wmsc/upload/file/pdf/v2/lcsc/2310301641_Sunlord-SDFL3216LR47KTF_C370278.pdf; ComponentLink2Description: JLCPCB Part URL; ComponentLink2URL: https://jlcpcb.com/partdetail/C370278; ComponentLink3Description: LCSC Part URL; ComponentLink3URL: https://lcsc.com/product-detail/Inductors-SMD_Sunlord-Sunlord-SDFL3216LR47KTF_C370278.html
footprint IND-1206 (1206 (3216M) Inductor)
pins: 1, 2

## SDFL3216Q1R0KTF
designator L?  Inductance: 1uH
Inductor, 1uH, ±10%, 400mΩ, 100mA, SMD 1206; Manufacturer: Sunlord; Manufacturer Part Number: SDFL3216Q1R0KTF; Package Size: 1206; JLCPCB Basic Part: No; JLCPCB Part Number: C370279; Supplier 1: LCSC; Category: Inductors; Supplier Part Number 1: C370279; Tolerance: ±10%; Rated Current: 100mA; DC Resistance: 400mΩ; RoHS: Yes; ComponentLink1Description: Datasheet; ComponentLink1URL: https://wmsc.lcsc.com/wmsc/upload/file/pdf/v2/lcsc/2310301641_Sunlord-SDFL3216Q1R0KTF_C370279.pdf; ComponentLink2Description: JLCPCB Part URL; ComponentLink2URL: https://jlcpcb.com/partdetail/C370279; ComponentLink3Description: LCSC Part URL; ComponentLink3URL: https://lcsc.com/product-detail/Inductors-SMD_Sunlord-Sunlord-SDFL3216Q1R0KTF_C370279.html
footprint IND-1206 (1206 (3216M) Inductor)
pins: 1, 2

## SDFL3216Q1R5KTF
designator L?  Inductance: 1.5uH
Inductor, 1.5uH, ±10%, 500mΩ, 50mA, SMD 1206; Manufacturer: Sunlord; Manufacturer Part Number: SDFL3216Q1R5KTF; Package Size: 1206; JLCPCB Basic Part: No; JLCPCB Part Number: C370280; Supplier 1: LCSC; Category: Inductors; Supplier Part Number 1: C370280; Tolerance: ±10%; Rated Current: 50mA; DC Resistance: 500mΩ; RoHS: Yes; ComponentLink1Description: Datasheet; ComponentLink1URL: https://wmsc.lcsc.com/wmsc/upload/file/pdf/v2/lcsc/2310301641_Sunlord-SDFL3216Q1R5KTF_C370280.pdf; ComponentLink2Description: JLCPCB Part URL; ComponentLink2URL: https://jlcpcb.com/partdetail/C370280; ComponentLink3Description: LCSC Part URL; ComponentLink3URL: https://lcsc.com/product-detail/Inductors-SMD_Sunlord-Sunlord-SDFL3216Q1R5KTF_C370280.html
footprint IND-1206 (1206 (3216M) Inductor)
pins: 1, 2

## SDFL3216Q2R2KTF
designator L?  Inductance: 2.2uH
Inductor, 2.2uH, ±10%, 600mΩ, 50mA, SMD 1206; Manufacturer: Sunlord; Manufacturer Part Number: SDFL3216Q2R2KTF; Package Size: 1206; JLCPCB Basic Part: No; JLCPCB Part Number: C370281; Supplier 1: LCSC; Category: Inductors; Supplier Part Number 1: C370281; Tolerance: ±10%; Rated Current: 50mA; DC Resistance: 600mΩ; RoHS: Yes; ComponentLink1Description: Datasheet; ComponentLink1URL: https://wmsc.lcsc.com/wmsc/upload/file/pdf/v2/lcsc/2310301641_Sunlord-SDFL3216Q2R2KTF_C370281.pdf; ComponentLink2Description: JLCPCB Part URL; ComponentLink2URL: https://jlcpcb.com/partdetail/C370281; ComponentLink3Description: LCSC Part URL; ComponentLink3URL: https://lcsc.com/product-detail/Inductors-SMD_Sunlord-Sunlord-SDFL3216Q2R2KTF_C370281.html
footprint IND-1206 (1206 (3216M) Inductor)
pins: 1, 2

## SDFL3216Q3R3KTF
designator L?  Inductance: 3.3uH
Inductor, 3.3uH, ±10%, 700mΩ, 50mA, SMD 1206; Manufacturer: Sunlord; Manufacturer Part Number: SDFL3216Q3R3KTF; Package Size: 1206; JLCPCB Basic Part: No; JLCPCB Part Number: C370282; Supplier 1: LCSC; Category: Inductors; Supplier Part Number 1: C370282; Tolerance: ±10%; Rated Current: 50mA; DC Resistance: 700mΩ; RoHS: Yes; ComponentLink1Description: Datasheet; ComponentLink1URL: https://wmsc.lcsc.com/wmsc/upload/file/pdf/v2/lcsc/2310301641_Sunlord-SDFL3216Q3R3KTF_C370282.pdf; ComponentLink2Description: JLCPCB Part URL; ComponentLink2URL: https://jlcpcb.com/partdetail/C370282; ComponentLink3Description: LCSC Part URL; ComponentLink3URL: https://lcsc.com/product-detail/Inductors-SMD_Sunlord-Sunlord-SDFL3216Q3R3KTF_C370282.html
footprint IND-1206 (1206 (3216M) Inductor)
pins: 1, 2

## SDFL3216Q4R7KTF
designator L?  Inductance: 4.7uH
Inductor, 4.7uH, ±10%, 900mΩ, 50mA, SMD 1206; Manufacturer: Sunlord; Manufacturer Part Number: SDFL3216Q4R7KTF; Package Size: 1206; JLCPCB Basic Part: No; JLCPCB Part Number: C305128; Supplier 1: LCSC; Category: Inductors; Supplier Part Number 1: C305128; Tolerance: ±10%; Rated Current: 50mA; DC Resistance: 900mΩ; RoHS: Yes; ComponentLink1Description: Datasheet; ComponentLink1URL: https://wmsc.lcsc.com/wmsc/upload/file/pdf/v2/lcsc/2310301641_Sunlord-SDFL3216Q4R7KTF_C305128.pdf; ComponentLink2Description: JLCPCB Part URL; ComponentLink2URL: https://jlcpcb.com/partdetail/C305128; ComponentLink3Description: LCSC Part URL; ComponentLink3URL: https://lcsc.com/product-detail/Inductors-SMD_Sunlord-Sunlord-SDFL3216Q4R7KTF_C305128.html
footprint IND-1206 (1206 (3216M) Inductor)
pins: 1, 2

## SDFL3216S100KTF
designator L?  Inductance: 10uH
Inductor, 10uH, ±10%, 1Ω, 25mA, SMD 1206; Manufacturer: Sunlord; Manufacturer Part Number: SDFL3216S100KTF; Package Size: 1206; JLCPCB Basic Part: No; JLCPCB Part Number: C279941; Supplier 1: LCSC; Category: Inductors; Supplier Part Number 1: C279941; Tolerance: ±10%; Rated Current: 25mA; DC Resistance: 1Ω; RoHS: Yes; ComponentLink1Description: Datasheet; ComponentLink1URL: https://wmsc.lcsc.com/wmsc/upload/file/pdf/v2/lcsc/2310301641_Sunlord-SDFL3216S100KTF_C279941.pdf; ComponentLink2Description: JLCPCB Part URL; ComponentLink2URL: https://jlcpcb.com/partdetail/C279941; ComponentLink3Description: LCSC Part URL; ComponentLink3URL: https://lcsc.com/product-detail/Inductors-SMD_Sunlord-Sunlord-SDFL3216S100KTF_C279941.html
footprint IND-1206 (1206 (3216M) Inductor)
pins: 1, 2

## SDFL3216T220KTF
designator L?  Inductance: 22uH
Inductor, 22uH, ±10%, 900mΩ, 5mA, SMD 1206; Manufacturer: Sunlord; Manufacturer Part Number: SDFL3216T220KTF; Package Size: 1206; JLCPCB Basic Part: No; JLCPCB Part Number: C370283; Supplier 1: LCSC; Category: Inductors; Supplier Part Number 1: C370283; Tolerance: ±10%; Rated Current: 5mA; DC Resistance: 900mΩ; RoHS: Yes; ComponentLink1Description: Datasheet; ComponentLink1URL: https://wmsc.lcsc.com/wmsc/upload/file/pdf/v2/lcsc/2310301641_Sunlord-SDFL3216T220KTF_C370283.pdf; ComponentLink2Description: JLCPCB Part URL; ComponentLink2URL: https://jlcpcb.com/partdetail/C370283; ComponentLink3Description: LCSC Part URL; ComponentLink3URL: https://lcsc.com/product-detail/Inductors-SMD_Sunlord-Sunlord-SDFL3216T220KTF_C370283.html
footprint IND-1206 (1206 (3216M) Inductor)
pins: 1, 2

## SDFL3216T330KTF
designator L?  Inductance: 33uH
Inductor, 33uH, ±10%, 1.05Ω, 5mA, SMD 1206; Manufacturer: Sunlord; Manufacturer Part Number: SDFL3216T330KTF; Package Size: 1206; JLCPCB Basic Part: No; JLCPCB Part Number: C370284; Supplier 1: LCSC; Category: Inductors; Supplier Part Number 1: C370284; Tolerance: ±10%; Rated Current: 5mA; DC Resistance: 1.05Ω; RoHS: Yes; ComponentLink1Description: Datasheet; ComponentLink1URL: https://wmsc.lcsc.com/wmsc/upload/file/pdf/v2/lcsc/2310301641_Sunlord-SDFL3216T330KTF_C370284.pdf; ComponentLink2Description: JLCPCB Part URL; ComponentLink2URL: https://jlcpcb.com/partdetail/C370284; ComponentLink3Description: LCSC Part URL; ComponentLink3URL: https://lcsc.com/product-detail/Inductors-SMD_Sunlord-Sunlord-SDFL3216T330KTF_C370284.html
footprint IND-1206 (1206 (3216M) Inductor)
pins: 1, 2

## SDFL3216T470KTF
designator L?  Inductance: 47uH
Inductor, 47uH, ±10%, 3.4Ω, 5mA, SMD 1206; Manufacturer: Sunlord; Manufacturer Part Number: SDFL3216T470KTF; Self-Resonant Frequency: 10MHz; Q Factor: 40@2MHz; Package Size: 1206; JLCPCB Basic Part: No; JLCPCB Part Number: C919149; Supplier 1: LCSC; Category: Inductors; Supplier Part Number 1: C919149; Tolerance: ±10%; Rated Current: 5mA; DC Resistance: 3.4Ω; RoHS: Yes; ComponentLink1Description: Datasheet; ComponentLink1URL: https://wmsc.lcsc.com/wmsc/upload/file/pdf/v2/lcsc/2310301641_Sunlord-SDFL3216T470KTF_C919149.pdf; ComponentLink2Description: JLCPCB Part URL; ComponentLink2URL: https://jlcpcb.com/partdetail/C919149; ComponentLink3Description: LCSC Part URL; ComponentLink3URL: https://lcsc.com/product-detail/Inductors-SMD_Sunlord-Sunlord-SDFL3216T470KTF_C919149.html
footprint IND-1206 (1206 (3216M) Inductor)
pins: 1, 2

## SDWL3216C3N3JSTF
designator L?  Inductance: 3.3nH
Inductor, 3.3nH, ±5%, 70mΩ, 1A, SMD 1206; Manufacturer: Sunlord; Manufacturer Part Number: SDWL3216C3N3JSTF; Self-Resonant Frequency: 6.2GHz; Q Factor: 20@300MHz; Package Size: 1206; JLCPCB Basic Part: No; JLCPCB Part Number: C709617; Supplier 1: LCSC; Category: Inductors; Supplier Part Number 1: C709617; Tolerance: ±5%; Rated Current: 1A; DC Resistance: 70mΩ; RoHS: Yes; ComponentLink1Description: Datasheet; ComponentLink1URL: https://wmsc.lcsc.com/wmsc/upload/file/pdf/v2/lcsc/2310301641_Sunlord-SDWL3216C3N3JSTF_C709617.pdf; ComponentLink2Description: JLCPCB Part URL; ComponentLink2URL: https://jlcpcb.com/partdetail/C709617; ComponentLink3Description: LCSC Part URL; ComponentLink3URL: https://lcsc.com/product-detail/Inductors-SMD_Sunlord-Sunlord-SDWL3216C3N3JSTF_C709617.html
footprint IND-1206 (1206 (3216M) Inductor)
pins: 1, 2

## SDWL3216C10NJSTF
designator L?  Inductance: 10nH
Inductor, 10nH, ±5%, 90mΩ, 1A, SMD 1206; Manufacturer: Sunlord; Manufacturer Part Number: SDWL3216C10NJSTF; Self-Resonant Frequency: 4GHz; Q Factor: 40@300MHz; Package Size: 1206; JLCPCB Basic Part: No; JLCPCB Part Number: C709613; Supplier 1: LCSC; Category: Inductors; Supplier Part Number 1: C709613; Tolerance: ±5%; Rated Current: 1A; DC Resistance: 90mΩ; RoHS: Yes; ComponentLink1Description: Datasheet; ComponentLink1URL: https://wmsc.lcsc.com/wmsc/upload/file/pdf/v2/lcsc/2110081530_Sunlord-SDWL3216C10NJSTF_C709613.pdf; ComponentLink2Description: JLCPCB Part URL; ComponentLink2URL: https://jlcpcb.com/partdetail/C709613; ComponentLink3Description: LCSC Part URL; ComponentLink3URL: https://lcsc.com/product-detail/Inductors-SMD_Sunlord-Sunlord-SDWL3216C10NJSTF_C709613.html
footprint IND-1206 (1206 (3216M) Inductor)
pins: 1, 2

## SDWL3216C22NJSTF
designator L?  Inductance: 22nH
Inductor, 22nH, ±5%, 120mΩ, 1A, SMD 1206; Manufacturer: Sunlord; Manufacturer Part Number: SDWL3216C22NJSTF; Self-Resonant Frequency: 2.2GHz; Q Factor: 50@300MHz; Package Size: 1206; JLCPCB Basic Part: No; JLCPCB Part Number: C709615; Supplier 1: LCSC; Category: Inductors; Supplier Part Number 1: C709615; Tolerance: ±5%; Rated Current: 1A; DC Resistance: 120mΩ; RoHS: Yes; ComponentLink1Description: Datasheet; ComponentLink1URL: https://wmsc.lcsc.com/wmsc/upload/file/pdf/v2/lcsc/2310301641_Sunlord-SDWL3216C22NJSTF_C709615.pdf; ComponentLink2Description: JLCPCB Part URL; ComponentLink2URL: https://jlcpcb.com/partdetail/C709615; ComponentLink3Description: LCSC Part URL; ComponentLink3URL: https://lcsc.com/product-detail/Inductors-SMD_Sunlord-Sunlord-SDWL3216C22NJSTF_C709615.html
footprint IND-1206 (1206 (3216M) Inductor)
pins: 1, 2

## SDWL3216C33NJSTF
designator L?  Inductance: 33nH
Inductor, 33nH, ±5%, 120mΩ, 1A, SMD 1206; Manufacturer: Sunlord; Manufacturer Part Number: SDWL3216C33NJSTF; Self-Resonant Frequency: 1.8GHz; Q Factor: 50@300MHz; Package Size: 1206; JLCPCB Basic Part: No; JLCPCB Part Number: C709616; Supplier 1: LCSC; Category: Inductors; Supplier Part Number 1: C709616; Tolerance: ±5%; Rated Current: 1A; DC Resistance: 120mΩ; RoHS: Yes; ComponentLink1Description: Datasheet; ComponentLink1URL: https://wmsc.lcsc.com/wmsc/upload/file/pdf/v2/lcsc/2310301641_Sunlord-SDWL3216C33NJSTF_C709616.pdf; ComponentLink2Description: JLCPCB Part URL; ComponentLink2URL: https://jlcpcb.com/partdetail/C709616; ComponentLink3Description: LCSC Part URL; ComponentLink3URL: https://lcsc.com/product-detail/Inductors-SMD_Sunlord-Sunlord-SDWL3216C33NJSTF_C709616.html
footprint IND-1206 (1206 (3216M) Inductor)
pins: 1, 2

## SDWL3216C68NJSTF
designator L?  Inductance: 68nH
Inductor, 68nH, ±5%, 260mΩ, 900mA, SMD 1206; Manufacturer: Sunlord; Manufacturer Part Number: SDWL3216C68NJSTF; Self-Resonant Frequency: 1.2GHz; Q Factor: 55@300MHz; Package Size: 1206; JLCPCB Basic Part: No; JLCPCB Part Number: C709619; Supplier 1: LCSC; Category: Inductors; Supplier Part Number 1: C709619; Tolerance: ±5%; Rated Current: 900mA; DC Resistance: 260mΩ; RoHS: Yes; ComponentLink1Description: Datasheet; ComponentLink1URL: https://wmsc.lcsc.com/wmsc/upload/file/pdf/v2/lcsc/2310301641_Sunlord-SDWL3216C68NJSTF_C709619.pdf; ComponentLink2Description: JLCPCB Part URL; ComponentLink2URL: https://jlcpcb.com/partdetail/C709619; ComponentLink3Description: LCSC Part URL; ComponentLink3URL: https://lcsc.com/product-detail/Inductors-SMD_Sunlord-Sunlord-SDWL3216C68NJSTF_C709619.html
footprint IND-1206 (1206 (3216M) Inductor)
pins: 1, 2

## SDWL3216C82NJSTF
designator L?  Inductance: 82nH
Inductor, 82nH, ±5%, 210mΩ, 900mA, SMD 1206; Manufacturer: Sunlord; Manufacturer Part Number: SDWL3216C82NJSTF; Self-Resonant Frequency: 1.2GHz; Q Factor: 55@300MHz; Package Size: 1206; JLCPCB Basic Part: No; JLCPCB Part Number: C709620; Supplier 1: LCSC; Category: Inductors; Supplier Part Number 1: C709620; Tolerance: ±5%; Rated Current: 900mA; DC Resistance: 210mΩ; RoHS: Yes; ComponentLink1Description: Datasheet; ComponentLink1URL: https://wmsc.lcsc.com/wmsc/upload/file/pdf/v2/lcsc/2310301641_Sunlord-SDWL3216C82NJSTF_C709620.pdf; ComponentLink2Description: JLCPCB Part URL; ComponentLink2URL: https://jlcpcb.com/partdetail/C709620; ComponentLink3Description: LCSC Part URL; ComponentLink3URL: https://lcsc.com/product-detail/Inductors-SMD_Sunlord-Sunlord-SDWL3216C82NJSTF_C709620.html
footprint IND-1206 (1206 (3216M) Inductor)
pins: 1, 2

## SDWL3216CR22JSTF
designator L?  Inductance: 220nH
Inductor, 220nH, ±5%, 560mΩ, 670mA, SMD 1206; Manufacturer: Sunlord; Manufacturer Part Number: SDWL3216CR22JSTF; Self-Resonant Frequency: 760MHz; Q Factor: 60@300MHz; Package Size: 1206; JLCPCB Basic Part: No; JLCPCB Part Number: C709621; Supplier 1: LCSC; Category: Inductors; Supplier Part Number 1: C709621; Tolerance: ±5%; Rated Current: 670mA; DC Resistance: 560mΩ; RoHS: Yes; ComponentLink1Description: Datasheet; ComponentLink1URL: https://wmsc.lcsc.com/wmsc/upload/file/pdf/v2/lcsc/2310301641_Sunlord-SDWL3216CR22JSTF_C709621.pdf; ComponentLink2Description: JLCPCB Part URL; ComponentLink2URL: https://jlcpcb.com/partdetail/C709621; ComponentLink3Description: LCSC Part URL; ComponentLink3URL: https://lcsc.com/product-detail/Inductors-SMD_Sunlord-Sunlord-SDWL3216CR22JSTF_C709621.html
footprint IND-1206 (1206 (3216M) Inductor)
pins: 1, 2

## SDWL3216CR27JSTF
designator L?  Inductance: 270nH
Inductor, 270nH, ±5%, 560mΩ, 630mA, SMD 1206; Manufacturer: Sunlord; Manufacturer Part Number: SDWL3216CR27JSTF; Self-Resonant Frequency: 730MHz; Q Factor: 50@300MHz; Package Size: 1206; JLCPCB Basic Part: No; JLCPCB Part Number: C709622; Supplier 1: LCSC; Category: Inductors; Supplier Part Number 1: C709622; Tolerance: ±5%; Rated Current: 630mA; DC Resistance: 560mΩ; RoHS: Yes; ComponentLink1Description: Datasheet; ComponentLink1URL: https://wmsc.lcsc.com/wmsc/upload/file/pdf/v2/lcsc/2310301641_Sunlord-SDWL3216CR27JSTF_C709622.pdf; ComponentLink2Description: JLCPCB Part URL; ComponentLink2URL: https://jlcpcb.com/partdetail/C709622; ComponentLink3Description: LCSC Part URL; ComponentLink3URL: https://lcsc.com/product-detail/Inductors-SMD_Sunlord-Sunlord-SDWL3216CR27JSTF_C709622.html
footprint IND-1206 (1206 (3216M) Inductor)
pins: 1, 2

## SDWL3216CR33JSTF
designator L?  Inductance: 330nH
Inductor, 330nH, ±5%, 700mΩ, 590mA, SMD 1206; Manufacturer: Sunlord; Manufacturer Part Number: SDWL3216CR33JSTF; Self-Resonant Frequency: 650MHz; Q Factor: 45@150MHz; Package Size: 1206; JLCPCB Basic Part: No; JLCPCB Part Number: C709623; Supplier 1: LCSC; Category: Inductors; Supplier Part Number 1: C709623; Tolerance: ±5%; Rated Current: 590mA; DC Resistance: 700mΩ; RoHS: Yes; ComponentLink1Description: Datasheet; ComponentLink1URL: https://wmsc.lcsc.com/wmsc/upload/file/pdf/v2/lcsc/2310301641_Sunlord-SDWL3216CR33JSTF_C709623.pdf; ComponentLink2Description: JLCPCB Part URL; ComponentLink2URL: https://jlcpcb.com/partdetail/C709623; ComponentLink3Description: LCSC Part URL; ComponentLink3URL: https://lcsc.com/product-detail/Inductors-SMD_Sunlord-Sunlord-SDWL3216CR33JSTF_C709623.html
footprint IND-1206 (1206 (3216M) Inductor)
pins: 1, 2

## SDWL3216CR47JSTF
designator L?  Inductance: 470nH
Inductor, 470nH, ±5%, 1.3Ω, 490mA, SMD 1206; Manufacturer: Sunlord; Manufacturer Part Number: SDWL3216CR47JSTF; Self-Resonant Frequency: 550MHz; Q Factor: 45@150MHz; Package Size: 1206; JLCPCB Basic Part: No; JLCPCB Part Number: C709624; Supplier 1: LCSC; Category: Inductors; Supplier Part Number 1: C709624; Tolerance: ±5%; Rated Current: 490mA; DC Resistance: 1.3Ω; RoHS: Yes; ComponentLink1Description: Datasheet; ComponentLink1URL: https://wmsc.lcsc.com/wmsc/upload/file/pdf/v2/lcsc/2310301641_Sunlord-SDWL3216CR47JSTF_C709624.pdf; ComponentLink2Description: JLCPCB Part URL; ComponentLink2URL: https://jlcpcb.com/partdetail/C709624; ComponentLink3Description: LCSC Part URL; ComponentLink3URL: https://lcsc.com/product-detail/Inductors-SMD_Sunlord-Sunlord-SDWL3216CR47JSTF_C709624.html
footprint IND-1206 (1206 (3216M) Inductor)
pins: 1, 2

## SDWL3216CR68JSTF
designator L?  Inductance: 680nH
Inductor, 680nH, ±5%, 1.58Ω, 430mA, SMD 1206; Manufacturer: Sunlord; Manufacturer Part Number: SDWL3216CR68JSTF; Self-Resonant Frequency: 450MHz; Q Factor: 45@150MHz; Package Size: 1206; JLCPCB Basic Part: No; JLCPCB Part Number: C709625; Supplier 1: LCSC; Category: Inductors; Supplier Part Number 1: C709625; Tolerance: ±5%; Rated Current: 430mA; DC Resistance: 1.58Ω; RoHS: Yes; ComponentLink1Description: Datasheet; ComponentLink1URL: https://wmsc.lcsc.com/wmsc/upload/file/pdf/v2/lcsc/2310301641_Sunlord-SDWL3216CR68JSTF_C709625.pdf; ComponentLink2Description: JLCPCB Part URL; ComponentLink2URL: https://jlcpcb.com/partdetail/C709625; ComponentLink3Description: LCSC Part URL; ComponentLink3URL: https://lcsc.com/product-detail/Inductors-SMD_Sunlord-Sunlord-SDWL3216CR68JSTF_C709625.html
footprint IND-1206 (1206 (3216M) Inductor)
pins: 1, 2

## SDWL3216CR82JSTF
designator L?  Inductance: 820nH
Inductor, 820nH, ±5%, 1.82Ω, 400mA, SMD 1206; Manufacturer: Sunlord; Manufacturer Part Number: SDWL3216CR82JSTF; Self-Resonant Frequency: 420MHz; Q Factor: 45@150MHz; Package Size: 1206; JLCPCB Basic Part: No; JLCPCB Part Number: C709626; Supplier 1: LCSC; Category: Inductors; Supplier Part Number 1: C709626; Tolerance: ±5%; Rated Current: 400mA; DC Resistance: 1.82Ω; RoHS: Yes; ComponentLink1Description: Datasheet; ComponentLink1URL: https://wmsc.lcsc.com/wmsc/upload/file/pdf/v2/lcsc/2310301641_Sunlord-SDWL3216CR82JSTF_C709626.pdf; ComponentLink2Description: JLCPCB Part URL; ComponentLink2URL: https://jlcpcb.com/partdetail/C709626; ComponentLink3Description: LCSC Part URL; ComponentLink3URL: https://lcsc.com/product-detail/Inductors-SMD_Sunlord-Sunlord-SDWL3216CR82JSTF_C709626.html
footprint IND-1206 (1206 (3216M) Inductor)
pins: 1, 2

## SDWL3216FW4R7JSTF
designator L?  Inductance: 4.7uH
Inductor, 4.7uH, ±5%, 2.2Ω, 280mA, SMD 1206; Manufacturer: Sunlord; Manufacturer Part Number: SDWL3216FW4R7JSTF; Package Size: 1206; JLCPCB Basic Part: No; JLCPCB Part Number: C431696; Supplier 1: LCSC; Category: Inductors; Supplier Part Number 1: C431696; Tolerance: ±5%; Rated Current: 280mA; DC Resistance: 2.2Ω; RoHS: Yes; ComponentLink1Description: Datasheet; ComponentLink1URL: https://wmsc.lcsc.com/wmsc/upload/file/pdf/v2/lcsc/2310301641_Sunlord-SDWL3216FW4R7JSTF_C431696.pdf; ComponentLink2Description: JLCPCB Part URL; ComponentLink2URL: https://jlcpcb.com/partdetail/C431696; ComponentLink3Description: LCSC Part URL; ComponentLink3URL: https://lcsc.com/product-detail/Inductors-SMD_Sunlord-Sunlord-SDWL3216FW4R7JSTF_C431696.html
footprint IND-1206 (1206 (3216M) Inductor)
pins: 1, 2